# Altium schematic symbol library pth-fuse.SchLib: 1 symbol
Pins are listed as number, name and electrical type; pins without a type are passive.

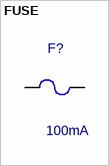
[diagram p0: symbol FUSE]

## FUSE
designator F?, comment value 100mA  (hidden comment: 000000)
Discrete Test Probe; PN: 000000; Package: PTH; MF: *; ExtraInfo: *
footprint F8.5X4 (Radial Lead Fuse 8.5x4mm)
pins: 1, 2